# EAGLE library part 1KOHM-ARRAY(4) (library SparkFun-Resistors)
4 x 1kΩ resistor array A resistor is a passive two-terminal electrical component that implements electrical resistance as a circuit element. Resistors act to reduce current flow, and, at the same time, act to lower voltage levels within circuits. - Wikipedia An array is a collection of discrete resistors in a single package.
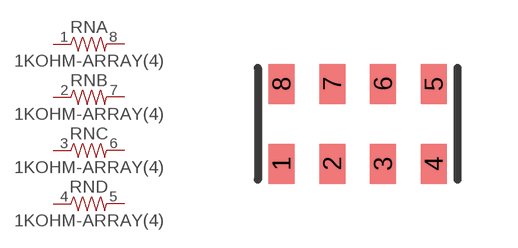
[diagram p3: symbol with the pads of 0805-ARV; footprint 0805-ARV]

Designator prefix RN; gates B=RESISTOR-PADS C=RESISTOR-PADS D=RESISTOR-PADS A=RESISTOR-PADS

## 1KOHM-ARRAY(4)-0805_ARV-1/10W-5% (PROD_ID: RES-13020; VALUE: 1k)  [0805-ARV]
1  A:1  pas
2  B:1  pas
3  C:1  pas
4  D:1  pas
5  D:2  pas
6  C:2  pas
7  B:2  pas
8  A:2  pas

## Footprint 0805-ARV (pad centres in mm)
4X2012(0805) resistor array
smd 0.65 x 1: 1 -1.905,-1; 2 -0.635,-1; 3 0.635,-1; 4 1.905,-1; 5 1.905,1; 6 0.635,1; 7 -0.635,1; 8 -1.905,1